# Altium integrated library Micron Memory Mobile LPDRAM.IntLib: 146 symbols (part 38 of 41)
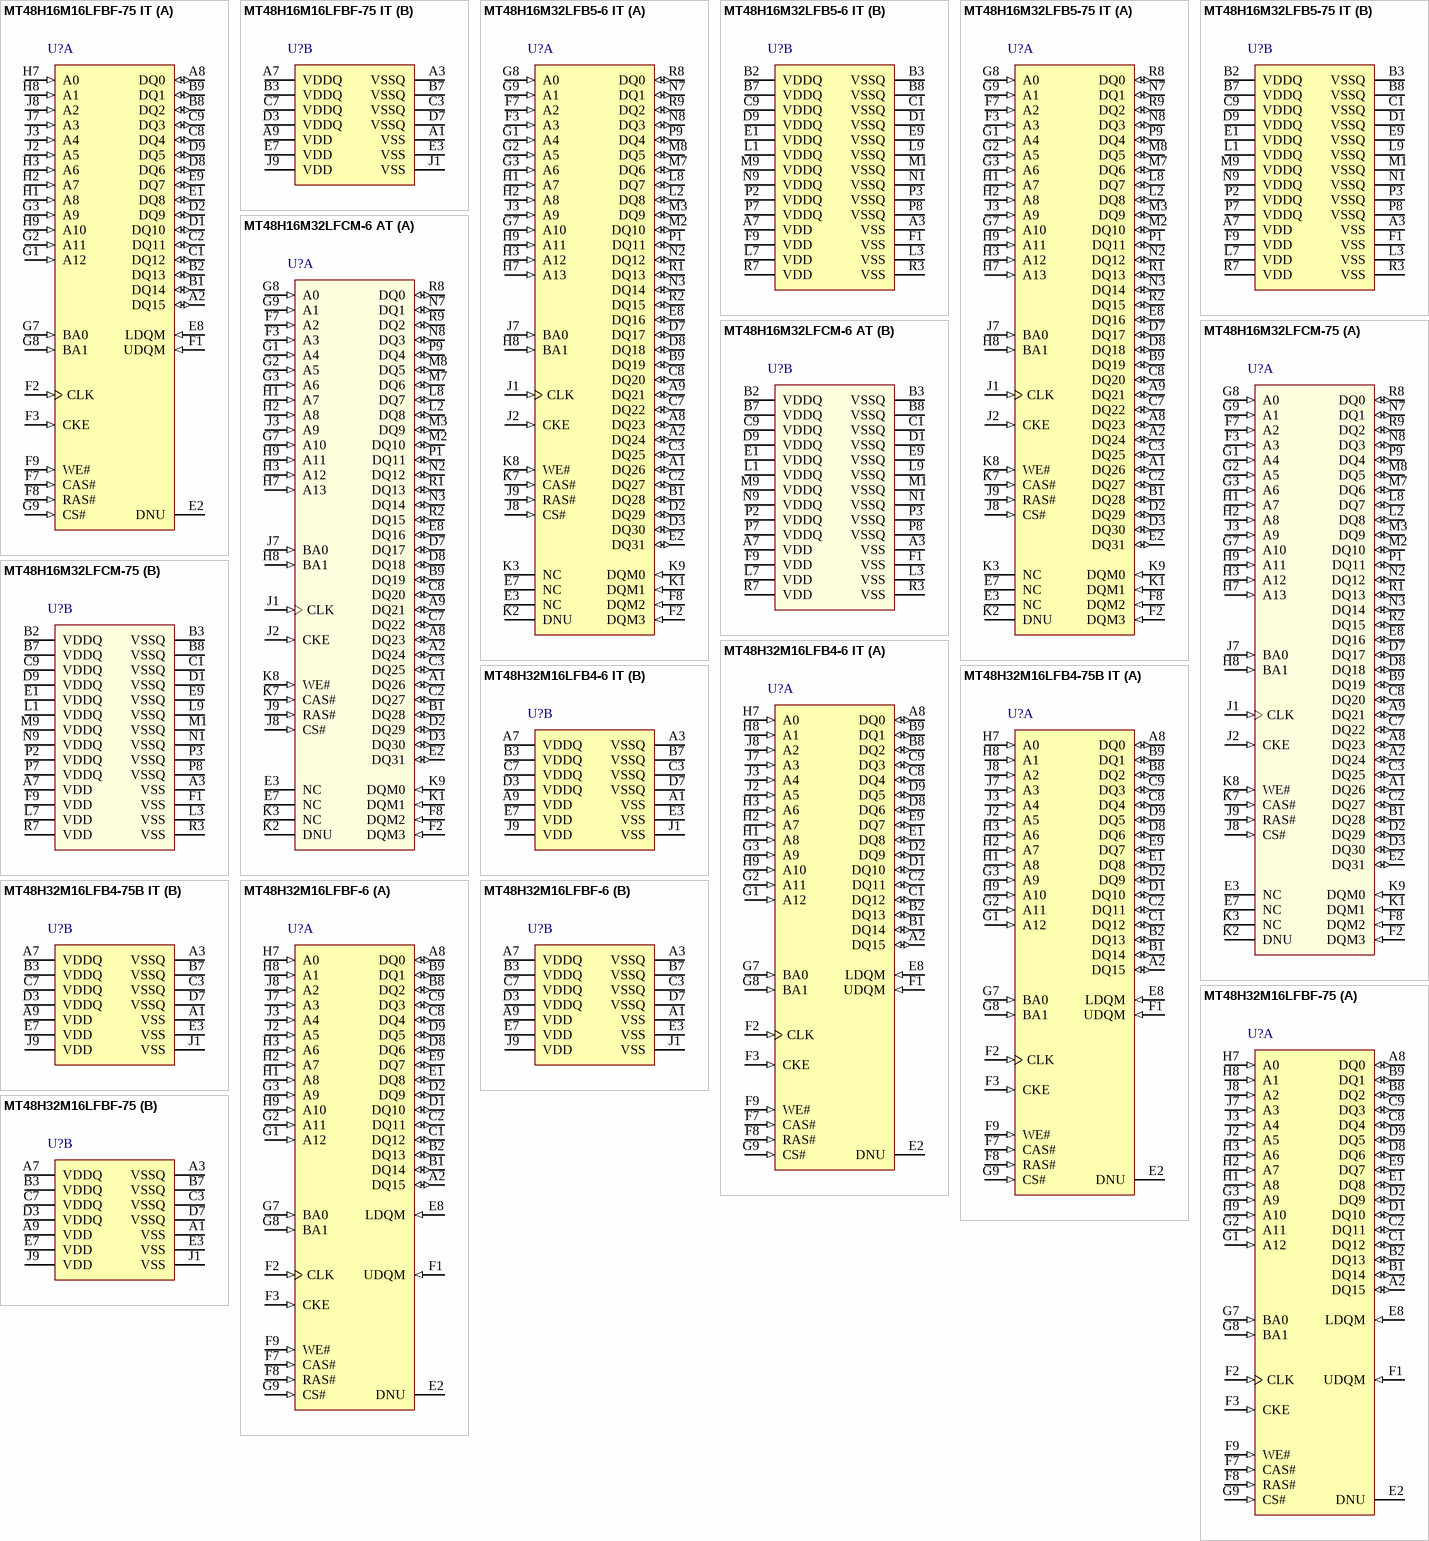
[diagram p61: symbols MT48H16M16LFBF-75 IT to MT48H32M16LFBF-75]

## MT48H32M16LFB4-6 IT
designator U?
512Mb Mobile LPSDR SDRAM, 32Mb x 16, 6ns, 1.8V, -40 to 85 degC, 54-Ball VFBGA, Pb-Free; Manufacturer: Micron; PartNumber: MT48H32M16LFB4-6 IT; Clock Rate: 167 MHz; Op. Temp.: -40C to +85C; DatasheetVersion: Rev.B; PackageVersion: Rev.Q; PackageReference: MICT-B4-54; PackageDescription: 54-Ball Very Thin Profile Fine-Pitch Ball Grid Array, 8x 8 mm, Pitch 0.8 mm; Cycle Time: 6ns; Data Rate: Mobile LPSDR; Density: 512Mb; Depth: 32Mb; Package: VFBGA; Part Status: Production; Pin Count: 54-ball; RoHS: Yes; Technology: Mobile LPSDR; Voltage: 1.8V; Width: x16; Mounting Technology: Surface Mount; ComponentLink1Description: Manufacturer URL; ComponentLink1URL: http://www.micron.com/; ComponentLink2Description: Datasheet; ComponentLink2URL: http://www.micron.com/~/media/Documents/Products/Data%20Sheet/DRAM/Mobile%20DRAM/Low-Power%20DRAM/LPSDR/Y67M_512Mb_Mobile_LPSDR_AT.pdf; ComponentLink3Description: Package Specification; ComponentLink3URL: http://www.micron.com/~/media/Documents/Products/Data%20Sheet/DRAM/128Mbx16x32Mobile.pdf
footprint MICT-B4-54 (BGA, 54-Balls, Body 8x8mm, Pitch 0.8mm)
part A pins: A2 DQ15 (io) "Data input/output: Data bus.", A8 DQ0 (io) "Data input/output: Data bus.", B1 DQ14 (io) "Data input/output: Data bus.", B2 DQ13 (io) "Data input/output: Data bus.", B8 DQ2 (io) "Data input/output: Data bus.", B9 DQ1 (io) "Data input/output: Data bus.", C1 DQ12 (io) "Data input/output: Data bus.", C2 DQ11 (io) "Data input/output: Data bus.", C8 DQ4 (io) "Data input/output: Data bus.", C9 DQ3 (io) "Data input/output: Data bus.", D1 DQ10 (io) "Data input/output: Data bus.", D2 DQ9 (io) "Data input/output: Data bus.", D8 DQ6 (io) "Data input/output: Data bus.", D9 DQ5 (io) "Data input/output: Data bus.", E1 DQ8 (io) "Data input/output: Data bus.", E2 DNU "Do not use: Must be grounded or left floating.", E8 LDQM (in) "Input/Output mask: DQM is sampled HIGH and is an input mask signal for write accesses and an output enable signal for read accesses. Input data is masked during a WRITE cycle. The output buffers are placed in a High-Z state (See Datasheet)", E9 DQ7 (io) "Data input/output: Data bus.", F1 UDQM (in) "Input/Output mask: DQM is sampled HIGH and is an input mask signal for write accesses and an output enable signal for read accesses. Input data is masked during a WRITE cycle. The output buffers are placed in a High-Z state (See Datasheet)", F2 CLK (in) "Clock: CLK is driven by the system clock. All SDRAM input signals are sampled on the positive edge of CLK. CLK also increments the internal burst counter and controls the output registers.", F3 CKE (in) "Clock enable: CKE activates (HIGH) and deactivates (LOW) the CLK signal. Deactivating the clock provides precharge power-down and SELF REFRESH operation (all banks idle), active power-down (row active in any bank), or CLOCK (See Datasheet)", F7 CAS# (in) "Command inputs: CAS#, RAS#, and WE# (along with CS#) define the command being entered.", F8 RAS# (in) "Command inputs: CAS#, RAS#, and WE# (along with CS#) define the command being entered.", F9 WE# (in) "Command inputs: CAS#, RAS#, and WE# (along with CS#) define the command being entered.", G1 A12 (in) "Address inputs: Addresses are sampled during the ACTIVE command (row) and READ/WRITE command [column); column address A[9:0] (x16); with A10 defining auto precharge] to select one location out of the memory array in the (See Datasheet)", G2 A11 (in) "Address inputs: Addresses are sampled during the ACTIVE command (row) and READ/WRITE command [column); column address A[9:0] (x16); with A10 defining auto precharge] to select one location out of the memory array in the (See Datasheet)", G3 A9 (in) "Address inputs: Addresses are sampled during the ACTIVE command (row) and READ/WRITE command [column); column address A[9:0] (x16); with A10 defining auto precharge] to select one location out of the memory array in the (See Datasheet)", G7 BA0 (in) "Bank address input(s): BA0 and BA1 define to which bank the ACTIVE, READ, WRITE, or PRECHARGE command is being applied. These pins also provide the op-code during a LOAD MODE REGISTER command.", G8 BA1 (in) "Bank address input(s): BA0 and BA1 define to which bank the ACTIVE, READ, WRITE, or PRECHARGE command is being applied. These pins also provide the op-code during a LOAD MODE REGISTER command.", G9 CS# (in) "Chip select: CS# enables (registered LOW) and disables (registered HIGH) the command decoder. All commands are masked when CS# is registered HIGH, but READ/WRITE bursts already in progress will continue and DQM will retain (See Datasheet)", H1 A8 (in) "Address inputs: Addresses are sampled during the ACTIVE command (row) and READ/WRITE command [column); column address A[9:0] (x16); with A10 defining auto precharge] to select one location out of the memory array in the (See Datasheet)", H2 A7 (in) "Address inputs: Addresses are sampled during the ACTIVE command (row) and READ/WRITE command [column); column address A[9:0] (x16); with A10 defining auto precharge] to select one location out of the memory array in the (See Datasheet)", H3 A6 (in) "Address inputs: Addresses are sampled during the ACTIVE command (row) and READ/WRITE command [column); column address A[9:0] (x16); with A10 defining auto precharge] to select one location out of the memory array in the (See Datasheet)", H7 A0 (in) "Address inputs: Addresses are sampled during the ACTIVE command (row) and READ/WRITE command [column); column address A[9:0] (x16); with A10 defining auto precharge] to select one location out of the memory array in the (See Datasheet)", H8 A1 (in) "Address inputs: Addresses are sampled during the ACTIVE command (row) and READ/WRITE command [column); column address A[9:0] (x16); with A10 defining auto precharge] to select one location out of the memory array in the (See Datasheet)", H9 A10 (in) "Address inputs: Addresses are sampled during the ACTIVE command (row) and READ/WRITE command [column); column address A[9:0] (x16); with A10 defining auto precharge] to select one location out of the memory array in the (See Datasheet)", J2 A5 (in) "Address inputs: Addresses are sampled during the ACTIVE command (row) and READ/WRITE command [column); column address A[9:0] (x16); with A10 defining auto precharge] to select one location out of the memory array in the (See Datasheet)", J3 A4 (in) "Address inputs: Addresses are sampled during the ACTIVE command (row) and READ/WRITE command [column); column address A[9:0] (x16); with A10 defining auto precharge] to select one location out of the memory array in the (See Datasheet)", J7 A3 (in) "Address inputs: Addresses are sampled during the ACTIVE command (row) and READ/WRITE command [column); column address A[9:0] (x16); with A10 defining auto precharge] to select one location out of the memory array in the (See Datasheet)", J8 A2 (in) "Address inputs: Addresses are sampled during the ACTIVE command (row) and READ/WRITE command [column); column address A[9:0] (x16); with A10 defining auto precharge] to select one location out of the memory array in the (See Datasheet)"
part B pins: A1 VSS (power) "Ground.", A3 VSSQ (power) "DQ ground: Isolated DQ power on the die to improve noise immunity.", A7 VDDQ (power) "DQ power: Isolated DQ power on the die to improve noise immunity.", A9 VDD (power) "Core power supply.", B3 VDDQ (power) "DQ power: Isolated DQ power on the die to improve noise immunity.", B7 VSSQ (power) "DQ ground: Isolated DQ power on the die to improve noise immunity.", C3 VSSQ (power) "DQ ground: Isolated DQ power on the die to improve noise immunity.", C7 VDDQ (power) "DQ power: Isolated DQ power on the die to improve noise immunity.", D3 VDDQ (power) "DQ power: Isolated DQ power on the die to improve noise immunity.", D7 VSSQ (power) "DQ ground: Isolated DQ power on the die to improve noise immunity.", E3 VSS (power) "Ground.", E7 VDD (power) "Core power supply.", J1 VSS (power) "Ground.", J9 VDD (power) "Core power supply."

## MT48H32M16LFB4-75B IT
designator U?
512Mb Mobile LPSDR SDRAM, 32Mb x 16, 7.5ns, 1.8V, -40 to 85 degC, 54-Ball VFBGA, Pb-Free; Manufacturer: Micron; PartNumber: MT48H32M16LFB4-75B IT; Clock Rate: 133 MHz; Op. Temp.: -40C to +85C; DatasheetVersion: Rev.B; PackageVersion: Rev.Q; PackageReference: MICT-B4-54; PackageDescription: 54-Ball Very Thin Profile Fine-Pitch Ball Grid Array, 8x 8 mm, Pitch 0.8 mm; Cycle Time: 7.5ns; Data Rate: Mobile LPSDR; Density: 512Mb; Depth: 32Mb; Package: VFBGA; Part Status: Production; Pin Count: 54-ball; RoHS: Yes; Technology: Mobile LPSDR; Voltage: 1.8V; Width: x16; Mounting Technology: Surface Mount; ComponentLink1Description: Manufacturer URL; ComponentLink1URL: http://www.micron.com/; ComponentLink2Description: Datasheet; ComponentLink2URL: http://www.micron.com/~/media/Documents/Products/Data%20Sheet/DRAM/Mobile%20DRAM/Low-Power%20DRAM/LPSDR/Y67M_512Mb_Mobile_LPSDR_AT.pdf; ComponentLink3Description: Package Specification; ComponentLink3URL: http://www.micron.com/~/media/Documents/Products/Data%20Sheet/DRAM/128Mbx16x32Mobile.pdf
footprint MICT-B4-54 (BGA, 54-Balls, Body 8x8mm, Pitch 0.8mm)
part A pins: A2 DQ15 (io) "Data input/output: Data bus.", A8 DQ0 (io) "Data input/output: Data bus.", B1 DQ14 (io) "Data input/output: Data bus.", B2 DQ13 (io) "Data input/output: Data bus.", B8 DQ2 (io) "Data input/output: Data bus.", B9 DQ1 (io) "Data input/output: Data bus.", C1 DQ12 (io) "Data input/output: Data bus.", C2 DQ11 (io) "Data input/output: Data bus.", C8 DQ4 (io) "Data input/output: Data bus.", C9 DQ3 (io) "Data input/output: Data bus.", D1 DQ10 (io) "Data input/output: Data bus.", D2 DQ9 (io) "Data input/output: Data bus.", D8 DQ6 (io) "Data input/output: Data bus.", D9 DQ5 (io) "Data input/output: Data bus.", E1 DQ8 (io) "Data input/output: Data bus.", E2 DNU "Do not use: Must be grounded or left floating.", E8 LDQM (in) "Input/Output mask: DQM is sampled HIGH and is an input mask signal for write accesses and an output enable signal for read accesses. Input data is masked during a WRITE cycle. The output buffers are placed in a High-Z state (See Datasheet)", E9 DQ7 (io) "Data input/output: Data bus.", F1 UDQM (in) "Input/Output mask: DQM is sampled HIGH and is an input mask signal for write accesses and an output enable signal for read accesses. Input data is masked during a WRITE cycle. The output buffers are placed in a High-Z state (See Datasheet)", F2 CLK (in) "Clock: CLK is driven by the system clock. All SDRAM input signals are sampled on the positive edge of CLK. CLK also increments the internal burst counter and controls the output registers.", F3 CKE (in) "Clock enable: CKE activates (HIGH) and deactivates (LOW) the CLK signal. Deactivating the clock provides precharge power-down and SELF REFRESH operation (all banks idle), active power-down (row active in any bank), or CLOCK (See Datasheet)", F7 CAS# (in) "Command inputs: CAS#, RAS#, and WE# (along with CS#) define the command being entered.", F8 RAS# (in) "Command inputs: CAS#, RAS#, and WE# (along with CS#) define the command being entered.", F9 WE# (in) "Command inputs: CAS#, RAS#, and WE# (along with CS#) define the command being entered.", G1 A12 (in) "Address inputs: Addresses are sampled during the ACTIVE command (row) and READ/WRITE command [column); column address A[9:0] (x16); with A10 defining auto precharge] to select one location out of the memory array in the (See Datasheet)", G2 A11 (in) "Address inputs: Addresses are sampled during the ACTIVE command (row) and READ/WRITE command [column); column address A[9:0] (x16); with A10 defining auto precharge] to select one location out of the memory array in the (See Datasheet)", G3 A9 (in) "Address inputs: Addresses are sampled during the ACTIVE command (row) and READ/WRITE command [column); column address A[9:0] (x16); with A10 defining auto precharge] to select one location out of the memory array in the (See Datasheet)", G7 BA0 (in) "Bank address input(s): BA0 and BA1 define to which bank the ACTIVE, READ, WRITE, or PRECHARGE command is being applied. These pins also provide the op-code during a LOAD MODE REGISTER command.", G8 BA1 (in) "Bank address input(s): BA0 and BA1 define to which bank the ACTIVE, READ, WRITE, or PRECHARGE command is being applied. These pins also provide the op-code during a LOAD MODE REGISTER command.", G9 CS# (in) "Chip select: CS# enables (registered LOW) and disables (registered HIGH) the command decoder. All commands are masked when CS# is registered HIGH, but READ/WRITE bursts already in progress will continue and DQM will retain (See Datasheet)", H1 A8 (in) "Address inputs: Addresses are sampled during the ACTIVE command (row) and READ/WRITE command [column); column address A[9:0] (x16); with A10 defining auto precharge] to select one location out of the memory array in the (See Datasheet)", H2 A7 (in) "Address inputs: Addresses are sampled during the ACTIVE command (row) and READ/WRITE command [column); column address A[9:0] (x16); with A10 defining auto precharge] to select one location out of the memory array in the (See Datasheet)", H3 A6 (in) "Address inputs: Addresses are sampled during the ACTIVE command (row) and READ/WRITE command [column); column address A[9:0] (x16); with A10 defining auto precharge] to select one location out of the memory array in the (See Datasheet)", H7 A0 (in) "Address inputs: Addresses are sampled during the ACTIVE command (row) and READ/WRITE command [column); column address A[9:0] (x16); with A10 defining auto precharge] to select one location out of the memory array in the (See Datasheet)", H8 A1 (in) "Address inputs: Addresses are sampled during the ACTIVE command (row) and READ/WRITE command [column); column address A[9:0] (x16); with A10 defining auto precharge] to select one location out of the memory array in the (See Datasheet)", H9 A10 (in) "Address inputs: Addresses are sampled during the ACTIVE command (row) and READ/WRITE command [column); column address A[9:0] (x16); with A10 defining auto precharge] to select one location out of the memory array in the (See Datasheet)", J2 A5 (in) "Address inputs: Addresses are sampled during the ACTIVE command (row) and READ/WRITE command [column); column address A[9:0] (x16); with A10 defining auto precharge] to select one location out of the memory array in the (See Datasheet)", J3 A4 (in) "Address inputs: Addresses are sampled during the ACTIVE command (row) and READ/WRITE command [column); column address A[9:0] (x16); with A10 defining auto precharge] to select one location out of the memory array in the (See Datasheet)", J7 A3 (in) "Address inputs: Addresses are sampled during the ACTIVE command (row) and READ/WRITE command [column); column address A[9:0] (x16); with A10 defining auto precharge] to select one location out of the memory array in the (See Datasheet)", J8 A2 (in) "Address inputs: Addresses are sampled during the ACTIVE command (row) and READ/WRITE command [column); column address A[9:0] (x16); with A10 defining auto precharge] to select one location out of the memory array in the (See Datasheet)"
part B pins: A1 VSS (power) "Ground.", A3 VSSQ (power) "DQ ground: Isolated DQ power on the die to improve noise immunity.", A7 VDDQ (power) "DQ power: Isolated DQ power on the die to improve noise immunity.", A9 VDD (power) "Core power supply.", B3 VDDQ (power) "DQ power: Isolated DQ power on the die to improve noise immunity.", B7 VSSQ (power) "DQ ground: Isolated DQ power on the die to improve noise immunity.", C3 VSSQ (power) "DQ ground: Isolated DQ power on the die to improve noise immunity.", C7 VDDQ (power) "DQ power: Isolated DQ power on the die to improve noise immunity.", D3 VDDQ (power) "DQ power: Isolated DQ power on the die to improve noise immunity.", D7 VSSQ (power) "DQ ground: Isolated DQ power on the die to improve noise immunity.", E3 VSS (power) "Ground.", E7 VDD (power) "Core power supply.", J1 VSS (power) "Ground.", J9 VDD (power) "Core power supply."

## MT48H32M16LFBF-6
designator U?
512Mb Mobile LPSDR SDRAM, 32Mb x 16, 6ns, 1.8V, 0 to 70 degC, 54-Ball VFBGA, Pb-Free; Manufacturer: Micron; PartNumber: MT48H32M16LFBF-6; Clock Rate: 167 MHz; Op. Temp.: 0C to +70C; DatasheetVersion: Rev.H; PackageVersion: Rev.H; PackageReference: MICT-BF-54; PackageDescription: 54-Ball Very Thin Profile Fine-Pitch Ball Grid Array, 9 x 8 mm, Pitch 0.8 mm; Cycle Time: 6ns; Density: 512Mb; Depth: 32Mb; Package: VFBGA; Part Status: End of Life; Pin Count: 54-ball; RoHS: Yes; Technology: Mobile LPSDR; Voltage: 1.8V; Width: x16; Mounting Technology: Surface Mount; ComponentLink1Description: Manufacturer URL; ComponentLink1URL: http://www.micron.com/; ComponentLink2Description: Datasheet; ComponentLink2URL: http://www.micron.com/~/media/Documents/Products/Data%20Sheet/DRAM/Mobile%20DRAM/Low-Power%20DRAM/LPSDR/Y47M_512Mb_mobile_lpsdr_sdram.pdf; ComponentLink3Description: Package Specification; ComponentLink3URL: http://www.micron.com/~/media/Documents/Products/Data%20Sheet/DRAM/Mobile%20DRAM/Low-Power%20DRAM/LPSDR/Y47M_512Mb_mobile_lpsdr_sdram.pdf
footprint MICT-BF-54 (BGA, 54-Balls, Body 9x8mm, Pitch 0.8mm)
part A pins: A2 DQ15 (io) "Data input/output: Data bus.", A8 DQ0 (io) "Data input/output: Data bus.", B1 DQ14 (io) "Data input/output: Data bus.", B2 DQ13 (io) "Data input/output: Data bus.", B8 DQ2 (io) "Data input/output: Data bus.", B9 DQ1 (io) "Data input/output: Data bus.", C1 DQ12 (io) "Data input/output: Data bus.", C2 DQ11 (io) "Data input/output: Data bus.", C8 DQ4 (io) "Data input/output: Data bus.", C9 DQ3 (io) "Data input/output: Data bus.", D1 DQ10 (io) "Data input/output: Data bus.", D2 DQ9 (io) "Data input/output: Data bus.", D8 DQ6 (io) "Data input/output: Data bus.", D9 DQ5 (io) "Data input/output: Data bus.", E1 DQ8 (io) "Data input/output: Data bus.", E2 DNU "Do not use: Must be grounded or left floating.", E8 LDQM (in) "Input/Output mask: DQM is sampled HIGH and is an input mask signal for write accesses and an output enable signal for read accesses. Input data is masked during a WRITE cycle. The output buffers are High-Z (two-clock (See Datasheet)", E9 DQ7 (io) "Data input/output: Data bus.", F1 UDQM (in) "Input/Output mask: DQM is sampled HIGH and is an input mask signal for write accesses and an output enable signal for read accesses. Input data is masked during a WRITE cycle. The output buffers are High-Z (two-clock (See Datasheet)", F2 CLK (in) "Clock: CLK is driven by the system clock. All SDRAM input signals are sampled on the positive edge of CLK. CLK also increments the internal burst counter and controls the output registers.", F3 CKE (in) "Clock enable: CKE activates (HIGH) and deactivates (LOW) the CLK signal. Deactivating the clock provides precharge power-down and SELF REFRESH operation (all banks idle), active power-down (row active in any bank), deep (See Datasheet)", F7 CAS# (in) "Command inputs: CAS#, RAS#, and WE# (along with CS#) define the command being entered.", F8 RAS# (in) "Command inputs: CAS#, RAS#, and WE# (along with CS#) define the command being entered.", F9 WE# (in) "Command inputs: CAS#, RAS#, and WE# (along with CS#) define the command being entered.", G1 A12 (in) "Address inputs: Addresses are sampled during the ACTIVE command (row) and READ/WRITE command [column); column address A[9:0] (x16); with A10 defining auto precharge] to select one location out of the memory array in the (See Datasheet)", G2 A11 (in) "Address inputs: Addresses are sampled during the ACTIVE command (row) and READ/WRITE command [column); column address A[9:0] (x16); with A10 defining auto precharge] to select one location out of the memory array in the (See Datasheet)", G3 A9 (in) "Address inputs: Addresses are sampled during the ACTIVE command (row) and READ/WRITE command [column); column address A[9:0] (x16); with A10 defining auto precharge] to select one location out of the memory array in the (See Datasheet)", G7 BA0 (in) "Bank address input(s): BA0 and BA1 define to which bank the ACTIVE, READ, WRITE, or PRECHARGE command is being applied. BA0 and BA1 become “Don’t Care” when registering an ALL BANK PRECHARGE (A10 HIGH).", G8 BA1 (in) "Bank address input(s): BA0 and BA1 define to which bank the ACTIVE, READ, WRITE, or PRECHARGE command is being applied. BA0 and BA1 become “Don’t Care” when registering an ALL BANK PRECHARGE (A10 HIGH).", G9 CS# (in) "Chip select: CS# enables (registered LOW) and disables (registered HIGH) the command decoder. All commands are masked when CS# is registered HIGH. CS# provides for external bank selection on systems with multiple banks. CS# (See Datasheet)", H1 A8 (in) "Address inputs: Addresses are sampled during the ACTIVE command (row) and READ/WRITE command [column); column address A[9:0] (x16); with A10 defining auto precharge] to select one location out of the memory array in the (See Datasheet)", H2 A7 (in) "Address inputs: Addresses are sampled during the ACTIVE command (row) and READ/WRITE command [column); column address A[9:0] (x16); with A10 defining auto precharge] to select one location out of the memory array in the (See Datasheet)", H3 A6 (in) "Address inputs: Addresses are sampled during the ACTIVE command (row) and READ/WRITE command [column); column address A[9:0] (x16); with A10 defining auto precharge] to select one location out of the memory array in the (See Datasheet)", H7 A0 (in) "Address inputs: Addresses are sampled during the ACTIVE command (row) and READ/WRITE command [column); column address A[9:0] (x16); with A10 defining auto precharge] to select one location out of the memory array in the (See Datasheet)", H8 A1 (in) "Address inputs: Addresses are sampled during the ACTIVE command (row) and READ/WRITE command [column); column address A[9:0] (x16); with A10 defining auto precharge] to select one location out of the memory array in the (See Datasheet)", H9 A10 (in) "Address inputs: Addresses are sampled during the ACTIVE command (row) and READ/WRITE command [column); column address A[9:0] (x16); with A10 defining auto precharge] to select one location out of the memory array in the (See Datasheet)", J2 A5 (in) "Address inputs: Addresses are sampled during the ACTIVE command (row) and READ/WRITE command [column); column address A[9:0] (x16); with A10 defining auto precharge] to select one location out of the memory array in the (See Datasheet)", J3 A4 (in) "Address inputs: Addresses are sampled during the ACTIVE command (row) and READ/WRITE command [column); column address A[9:0] (x16); with A10 defining auto precharge] to select one location out of the memory array in the (See Datasheet)", J7 A3 (in) "Address inputs: Addresses are sampled during the ACTIVE command (row) and READ/WRITE command [column); column address A[9:0] (x16); with A10 defining auto precharge] to select one location out of the memory array in the (See Datasheet)", J8 A2 (in) "Address inputs: Addresses are sampled during the ACTIVE command (row) and READ/WRITE command [column); column address A[9:0] (x16); with A10 defining auto precharge] to select one location out of the memory array in the (See Datasheet)"
part B pins: A1 VSS (power) "Ground.", A3 VSSQ (power) "DQ ground: Isolated DQ power on the die to improve noise immunity.", A7 VDDQ (power) "DQ power: Isolated DQ power on the die to improve noise immunity.", A9 VDD (power) "Power supply: Voltage dependant on option.", B3 VDDQ (power) "DQ power: Isolated DQ power on the die to improve noise immunity.", B7 VSSQ (power) "DQ ground: Isolated DQ power on the die to improve noise immunity.", C3 VSSQ (power) "DQ ground: Isolated DQ power on the die to improve noise immunity.", C7 VDDQ (power) "DQ power: Isolated DQ power on the die to improve noise immunity.", D3 VDDQ (power) "DQ power: Isolated DQ power on the die to improve noise immunity.", D7 VSSQ (power) "DQ ground: Isolated DQ power on the die to improve noise immunity.", E3 VSS (power) "Ground.", E7 VDD (power) "Power supply: Voltage dependant on option.", J1 VSS (power) "Ground.", J9 VDD (power) "Power supply: Voltage dependant on option."

## MT48H32M16LFBF-75
designator U?
512Mb Mobile LPSDR SDRAM, 32Mb x 16, 7.5ns, 1.8V, 0 to 70 degC, 54-Ball VFBGA, Pb-Free; Manufacturer: Micron; PartNumber: MT48H32M16LFBF-75; Clock Rate: 133 MHz; Op. Temp.: 0C to +70C; DatasheetVersion: Rev.H; PackageVersion: Rev.H; PackageReference: MICT-BF-54; PackageDescription: 54-Ball Very Thin Profile Fine-Pitch Ball Grid Array, 9 x 8 mm, Pitch 0.8 mm; Cycle Time: 7.5ns; Data Rate: Mobile LPSDR; Density: 512Mb; Depth: 32Mb; Package: VFBGA; Part Status: Contact Factory; Pin Count: 54-ball; RoHS: Yes; Technology: Mobile LPSDR; Voltage: 1.8V; Width: x16; Mounting Technology: Surface Mount; ComponentLink1Description: Manufacturer URL; ComponentLink1URL: http://www.micron.com/; ComponentLink2Description: Datasheet; ComponentLink2URL: http://www.micron.com/~/media/Documents/Products/Data%20Sheet/DRAM/Mobile%20DRAM/Low-Power%20DRAM/LPSDR/Y47M_512Mb_mobile_lpsdr_sdram.pdf; ComponentLink3Description: Package Specification; ComponentLink3URL: http://www.micron.com/~/media/Documents/Products/Data%20Sheet/DRAM/Mobile%20DRAM/Low-Power%20DRAM/LPSDR/Y47M_512Mb_mobile_lpsdr_sdram.pdf
footprint MICT-BF-54 (BGA, 54-Balls, Body 9x8mm, Pitch 0.8mm)
part A pins: A2 DQ15 (io) "Data input/output: Data bus.", A8 DQ0 (io) "Data input/output: Data bus.", B1 DQ14 (io) "Data input/output: Data bus.", B2 DQ13 (io) "Data input/output: Data bus.", B8 DQ2 (io) "Data input/output: Data bus.", B9 DQ1 (io) "Data input/output: Data bus.", C1 DQ12 (io) "Data input/output: Data bus.", C2 DQ11 (io) "Data input/output: Data bus.", C8 DQ4 (io) "Data input/output: Data bus.", C9 DQ3 (io) "Data input/output: Data bus.", D1 DQ10 (io) "Data input/output: Data bus.", D2 DQ9 (io) "Data input/output: Data bus.", D8 DQ6 (io) "Data input/output: Data bus.", D9 DQ5 (io) "Data input/output: Data bus.", E1 DQ8 (io) "Data input/output: Data bus.", E2 DNU "Do not use: Must be grounded or left floating.", E8 LDQM (in) "Input/Output mask: DQM is sampled HIGH and is an input mask signal for write accesses and an output enable signal for read accesses. Input data is masked during a WRITE cycle. The output buffers are High-Z (two-clock (See Datasheet)", E9 DQ7 (io) "Data input/output: Data bus.", F1 UDQM (in) "Input/Output mask: DQM is sampled HIGH and is an input mask signal for write accesses and an output enable signal for read accesses. Input data is masked during a WRITE cycle. The output buffers are High-Z (two-clock (See Datasheet)", F2 CLK (in) "Clock: CLK is driven by the system clock. All SDRAM input signals are sampled on the positive edge of CLK. CLK also increments the internal burst counter and controls the output registers.", F3 CKE (in) "Clock enable: CKE activates (HIGH) and deactivates (LOW) the CLK signal. Deactivating the clock provides precharge power-down and SELF REFRESH operation (all banks idle), active power-down (row active in any bank), deep (See Datasheet)", F7 CAS# (in) "Command inputs: CAS#, RAS#, and WE# (along with CS#) define the command being entered.", F8 RAS# (in) "Command inputs: CAS#, RAS#, and WE# (along with CS#) define the command being entered.", F9 WE# (in) "Command inputs: CAS#, RAS#, and WE# (along with CS#) define the command being entered.", G1 A12 (in) "Address inputs: Addresses are sampled during the ACTIVE command (row) and READ/WRITE command [column); column address A[9:0] (x16); with A10 defining auto precharge] to select one location out of the memory array in the (See Datasheet)", G2 A11 (in) "Address inputs: Addresses are sampled during the ACTIVE command (row) and READ/WRITE command [column); column address A[9:0] (x16); with A10 defining auto precharge] to select one location out of the memory array in the (See Datasheet)", G3 A9 (in) "Address inputs: Addresses are sampled during the ACTIVE command (row) and READ/WRITE command [column); column address A[9:0] (x16); with A10 defining auto precharge] to select one location out of the memory array in the (See Datasheet)", G7 BA0 (in) "Bank address input(s): BA0 and BA1 define to which bank the ACTIVE, READ, WRITE, or PRECHARGE command is being applied. BA0 and BA1 become “Don’t Care” when registering an ALL BANK PRECHARGE (A10 HIGH).", G8 BA1 (in) "Bank address input(s): BA0 and BA1 define to which bank the ACTIVE, READ, WRITE, or PRECHARGE command is being applied. BA0 and BA1 become “Don’t Care” when registering an ALL BANK PRECHARGE (A10 HIGH).", G9 CS# (in) "Chip select: CS# enables (registered LOW) and disables (registered HIGH) the command decoder. All commands are masked when CS# is registered HIGH. CS# provides for external bank selection on systems with multiple banks. CS# (See Datasheet)", H1 A8 (in) "Address inputs: Addresses are sampled during the ACTIVE command (row) and READ/WRITE command [column); column address A[9:0] (x16); with A10 defining auto precharge] to select one location out of the memory array in the (See Datasheet)", H2 A7 (in) "Address inputs: Addresses are sampled during the ACTIVE command (row) and READ/WRITE command [column); column address A[9:0] (x16); with A10 defining auto precharge] to select one location out of the memory array in the (See Datasheet)", H3 A6 (in) "Address inputs: Addresses are sampled during the ACTIVE command (row) and READ/WRITE command [column); column address A[9:0] (x16); with A10 defining auto precharge] to select one location out of the memory array in the (See Datasheet)", H7 A0 (in) "Address inputs: Addresses are sampled during the ACTIVE command (row) and READ/WRITE command [column); column address A[9:0] (x16); with A10 defining auto precharge] to select one location out of the memory array in the (See Datasheet)", H8 A1 (in) "Address inputs: Addresses are sampled during the ACTIVE command (row) and READ/WRITE command [column); column address A[9:0] (x16); with A10 defining auto precharge] to select one location out of the memory array in the (See Datasheet)", H9 A10 (in) "Address inputs: Addresses are sampled during the ACTIVE command (row) and READ/WRITE command [column); column address A[9:0] (x16); with A10 defining auto precharge] to select one location out of the memory array in the (See Datasheet)", J2 A5 (in) "Address inputs: Addresses are sampled during the ACTIVE command (row) and READ/WRITE command [column); column address A[9:0] (x16); with A10 defining auto precharge] to select one location out of the memory array in the (See Datasheet)", J3 A4 (in) "Address inputs: Addresses are sampled during the ACTIVE command (row) and READ/WRITE command [column); column address A[9:0] (x16); with A10 defining auto precharge] to select one location out of the memory array in the (See Datasheet)", J7 A3 (in) "Address inputs: Addresses are sampled during the ACTIVE command (row) and READ/WRITE command [column); column address A[9:0] (x16); with A10 defining auto precharge] to select one location out of the memory array in the (See Datasheet)", J8 A2 (in) "Address inputs: Addresses are sampled during the ACTIVE command (row) and READ/WRITE command [column); column address A[9:0] (x16); with A10 defining auto precharge] to select one location out of the memory array in the (See Datasheet)"
part B pins: A1 VSS (power) "Ground.", A3 VSSQ (power) "DQ ground: Isolated DQ power on the die to improve noise immunity.", A7 VDDQ (power) "DQ power: Isolated DQ power on the die to improve noise immunity.", A9 VDD (power) "Power supply: Voltage dependant on option.", B3 VDDQ (power) "DQ power: Isolated DQ power on the die to improve noise immunity.", B7 VSSQ (power) "DQ ground: Isolated DQ power on the die to improve noise immunity.", C3 VSSQ (power) "DQ ground: Isolated DQ power on the die to improve noise immunity.", C7 VDDQ (power) "DQ power: Isolated DQ power on the die to improve noise immunity.", D3 VDDQ (power) "DQ power: Isolated DQ power on the die to improve noise immunity.", D7 VSSQ (power) "DQ ground: Isolated DQ power on the die to improve noise immunity.", E3 VSS (power) "Ground.", E7 VDD (power) "Power supply: Voltage dependant on option.", J1 VSS (power) "Ground.", J9 VDD (power) "Power supply: Voltage dependant on option."

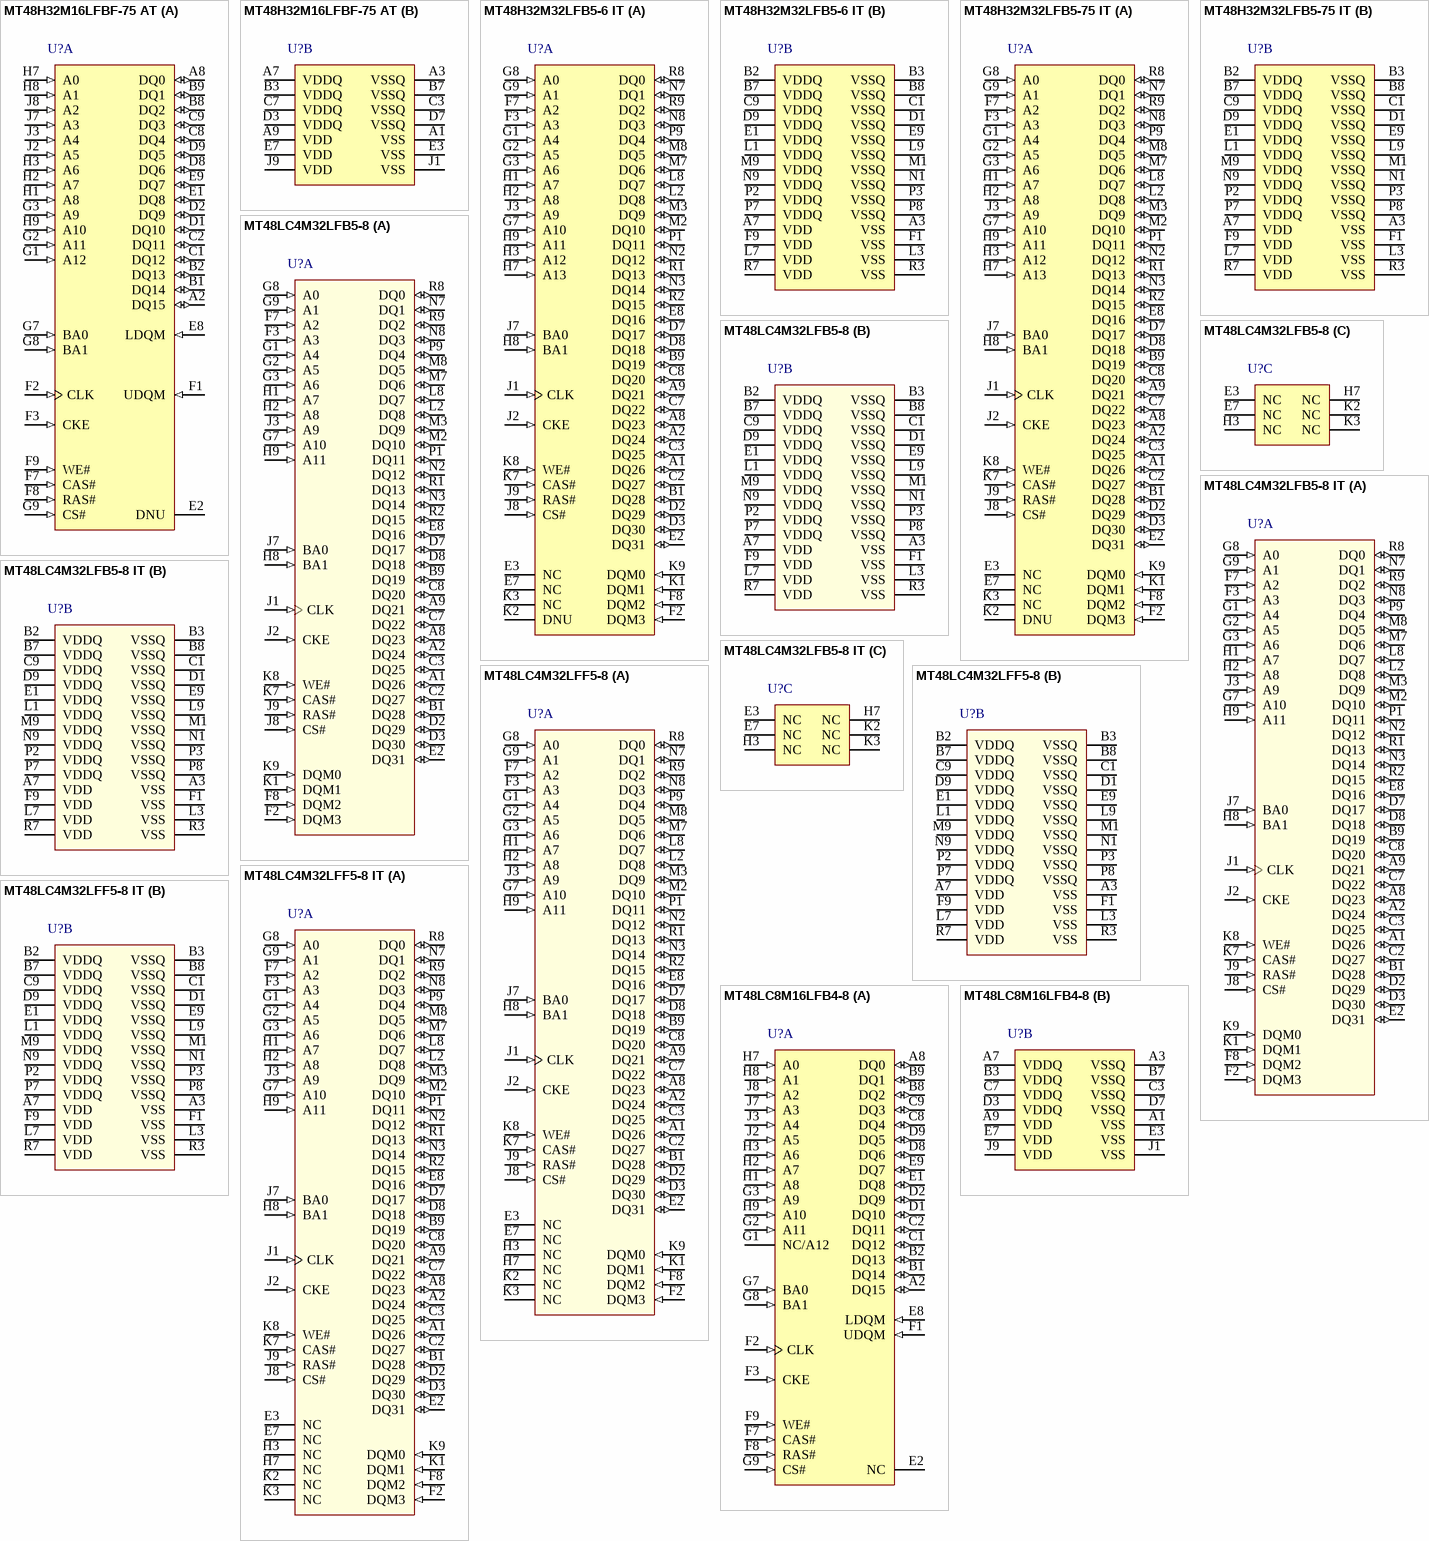
[diagram p23: symbols MT48H32M16LFBF-75 AT to MT48LC8M16LFB4-8]

## MT48H32M16LFBF-75 AT
designator U?
512Mb Mobile LPSDR SDRAM, 32Mb x 16, 7.5ns, 1.8V, -40 to 105 degC, 54-Ball VFBGA, Pb-Free; Manufacturer: Micron; PartNumber: MT48H32M16LFBF-75 AT; Clock Rate: 133 MHz; Op. Temp.: -40C to +105C; DatasheetVersion: Rev.H; PackageVersion: Rev.H; PackageReference: MICT-BF-54; PackageDescription: 54-Ball Very Thin Profile Fine-Pitch Ball Grid Array, 9 x 8 mm, Pitch 0.8 mm; Cycle Time: 7.5ns; Data Rate: Mobile LPSDR; Density: 512Mb; Depth: 32Mb; Package: VFBGA; Part Status: End of Life; Pin Count: 54-ball; RoHS: Yes; Technology: Mobile LPSDR; Voltage: 1.8V; Width: x16; Mounting Technology: Surface Mount; ComponentLink1Description: Manufacturer URL; ComponentLink1URL: http://www.micron.com/; ComponentLink2Description: Datasheet; ComponentLink2URL: http://www.micron.com/~/media/Documents/Products/Data%20Sheet/DRAM/Mobile%20DRAM/Low-Power%20DRAM/LPSDR/Y47M_512Mb_mobile_lpsdr_sdram.pdf; ComponentLink3Description: Package Specification; ComponentLink3URL: http://www.micron.com/~/media/Documents/Products/Data%20Sheet/DRAM/Mobile%20DRAM/Low-Power%20DRAM/LPSDR/Y47M_512Mb_mobile_lpsdr_sdram.pdf
footprint MICT-BF-54 (BGA, 54-Balls, Body 9x8mm, Pitch 0.8mm)
part A pins: A2 DQ15 (io) "Data input/output: Data bus.", A8 DQ0 (io) "Data input/output: Data bus.", B1 DQ14 (io) "Data input/output: Data bus.", B2 DQ13 (io) "Data input/output: Data bus.", B8 DQ2 (io) "Data input/output: Data bus.", B9 DQ1 (io) "Data input/output: Data bus.", C1 DQ12 (io) "Data input/output: Data bus.", C2 DQ11 (io) "Data input/output: Data bus.", C8 DQ4 (io) "Data input/output: Data bus.", C9 DQ3 (io) "Data input/output: Data bus.", D1 DQ10 (io) "Data input/output: Data bus.", D2 DQ9 (io) "Data input/output: Data bus.", D8 DQ6 (io) "Data input/output: Data bus.", D9 DQ5 (io) "Data input/output: Data bus.", E1 DQ8 (io) "Data input/output: Data bus.", E2 DNU "Do not use: Must be grounded or left floating.", E8 LDQM (in) "Input/Output mask: DQM is sampled HIGH and is an input mask signal for write accesses and an output enable signal for read accesses. Input data is masked during a WRITE cycle. The output buffers are High-Z (two-clock (See Datasheet)", E9 DQ7 (io) "Data input/output: Data bus.", F1 UDQM (in) "Input/Output mask: DQM is sampled HIGH and is an input mask signal for write accesses and an output enable signal for read accesses. Input data is masked during a WRITE cycle. The output buffers are High-Z (two-clock (See Datasheet)", F2 CLK (in) "Clock: CLK is driven by the system clock. All SDRAM input signals are sampled on the positive edge of CLK. CLK also increments the internal burst counter and controls the output registers.", F3 CKE (in) "Clock enable: CKE activates (HIGH) and deactivates (LOW) the CLK signal. Deactivating the clock provides precharge power-down and SELF REFRESH operation (all banks idle), active power-down (row active in any bank), deep (See Datasheet)", F7 CAS# (in) "Command inputs: CAS#, RAS#, and WE# (along with CS#) define the command being entered.", F8 RAS# (in) "Command inputs: CAS#, RAS#, and WE# (along with CS#) define the command being entered.", F9 WE# (in) "Command inputs: CAS#, RAS#, and WE# (along with CS#) define the command being entered.", G1 A12 (in) "Address inputs: Addresses are sampled during the ACTIVE command (row) and READ/WRITE command [column); column address A[9:0] (x16); with A10 defining auto precharge] to select one location out of the memory array in the (See Datasheet)", G2 A11 (in) "Address inputs: Addresses are sampled during the ACTIVE command (row) and READ/WRITE command [column); column address A[9:0] (x16); with A10 defining auto precharge] to select one location out of the memory array in the (See Datasheet)", G3 A9 (in) "Address inputs: Addresses are sampled during the ACTIVE command (row) and READ/WRITE command [column); column address A[9:0] (x16); with A10 defining auto precharge] to select one location out of the memory array in the (See Datasheet)", G7 BA0 (in) "Bank address input(s): BA0 and BA1 define to which bank the ACTIVE, READ, WRITE, or PRECHARGE command is being applied. BA0 and BA1 become “Don’t Care” when registering an ALL BANK PRECHARGE (A10 HIGH).", G8 BA1 (in) "Bank address input(s): BA0 and BA1 define to which bank the ACTIVE, READ, WRITE, or PRECHARGE command is being applied. BA0 and BA1 become “Don’t Care” when registering an ALL BANK PRECHARGE (A10 HIGH).", G9 CS# (in) "Chip select: CS# enables (registered LOW) and disables (registered HIGH) the command decoder. All commands are masked when CS# is registered HIGH. CS# provides for external bank selection on systems with multiple banks. CS# (See Datasheet)", H1 A8 (in) "Address inputs: Addresses are sampled during the ACTIVE command (row) and READ/WRITE command [column); column address A[9:0] (x16); with A10 defining auto precharge] to select one location out of the memory array in the (See Datasheet)", H2 A7 (in) "Address inputs: Addresses are sampled during the ACTIVE command (row) and READ/WRITE command [column); column address A[9:0] (x16); with A10 defining auto precharge] to select one location out of the memory array in the (See Datasheet)", H3 A6 (in) "Address inputs: Addresses are sampled during the ACTIVE command (row) and READ/WRITE command [column); column address A[9:0] (x16); with A10 defining auto precharge] to select one location out of the memory array in the (See Datasheet)", H7 A0 (in) "Address inputs: Addresses are sampled during the ACTIVE command (row) and READ/WRITE command [column); column address A[9:0] (x16); with A10 defining auto precharge] to select one location out of the memory array in the (See Datasheet)", H8 A1 (in) "Address inputs: Addresses are sampled during the ACTIVE command (row) and READ/WRITE command [column); column address A[9:0] (x16); with A10 defining auto precharge] to select one location out of the memory array in the (See Datasheet)", H9 A10 (in) "Address inputs: Addresses are sampled during the ACTIVE command (row) and READ/WRITE command [column); column address A[9:0] (x16); with A10 defining auto precharge] to select one location out of the memory array in the (See Datasheet)", J2 A5 (in) "Address inputs: Addresses are sampled during the ACTIVE command (row) and READ/WRITE command [column); column address A[9:0] (x16); with A10 defining auto precharge] to select one location out of the memory array in the (See Datasheet)", J3 A4 (in) "Address inputs: Addresses are sampled during the ACTIVE command (row) and READ/WRITE command [column); column address A[9:0] (x16); with A10 defining auto precharge] to select one location out of the memory array in the (See Datasheet)", J7 A3 (in) "Address inputs: Addresses are sampled during the ACTIVE command (row) and READ/WRITE command [column); column address A[9:0] (x16); with A10 defining auto precharge] to select one location out of the memory array in the (See Datasheet)", J8 A2 (in) "Address inputs: Addresses are sampled during the ACTIVE command (row) and READ/WRITE command [column); column address A[9:0] (x16); with A10 defining auto precharge] to select one location out of the memory array in the (See Datasheet)"
part B pins: A1 VSS (power) "Ground.", A3 VSSQ (power) "DQ ground: Isolated DQ power on the die to improve noise immunity.", A7 VDDQ (power) "DQ power: Isolated DQ power on the die to improve noise immunity.", A9 VDD (power) "Power supply: Voltage dependant on option.", B3 VDDQ (power) "DQ power: Isolated DQ power on the die to improve noise immunity.", B7 VSSQ (power) "DQ ground: Isolated DQ power on the die to improve noise immunity.", C3 VSSQ (power) "DQ ground: Isolated DQ power on the die to improve noise immunity.", C7 VDDQ (power) "DQ power: Isolated DQ power on the die to improve noise immunity.", D3 VDDQ (power) "DQ power: Isolated DQ power on the die to improve noise immunity.", D7 VSSQ (power) "DQ ground: Isolated DQ power on the die to improve noise immunity.", E3 VSS (power) "Ground.", E7 VDD (power) "Power supply: Voltage dependant on option.", J1 VSS (power) "Ground.", J9 VDD (power) "Power supply: Voltage dependant on option."